# Altium footprint library Low frequency N32G452RX_20220819-V3.PcbLib: 34 footprints (part 1 of 3)
Each footprint in its own frame and in the unit in brackets; x right, y up, seen from the top. Pads: shape width x height; smd on the part's side, far side on the other; paste and mask are expansions set on the pad; w line width, h text height; cw(c..) or ccw(c..) is an arc to the next point about the centre after c.
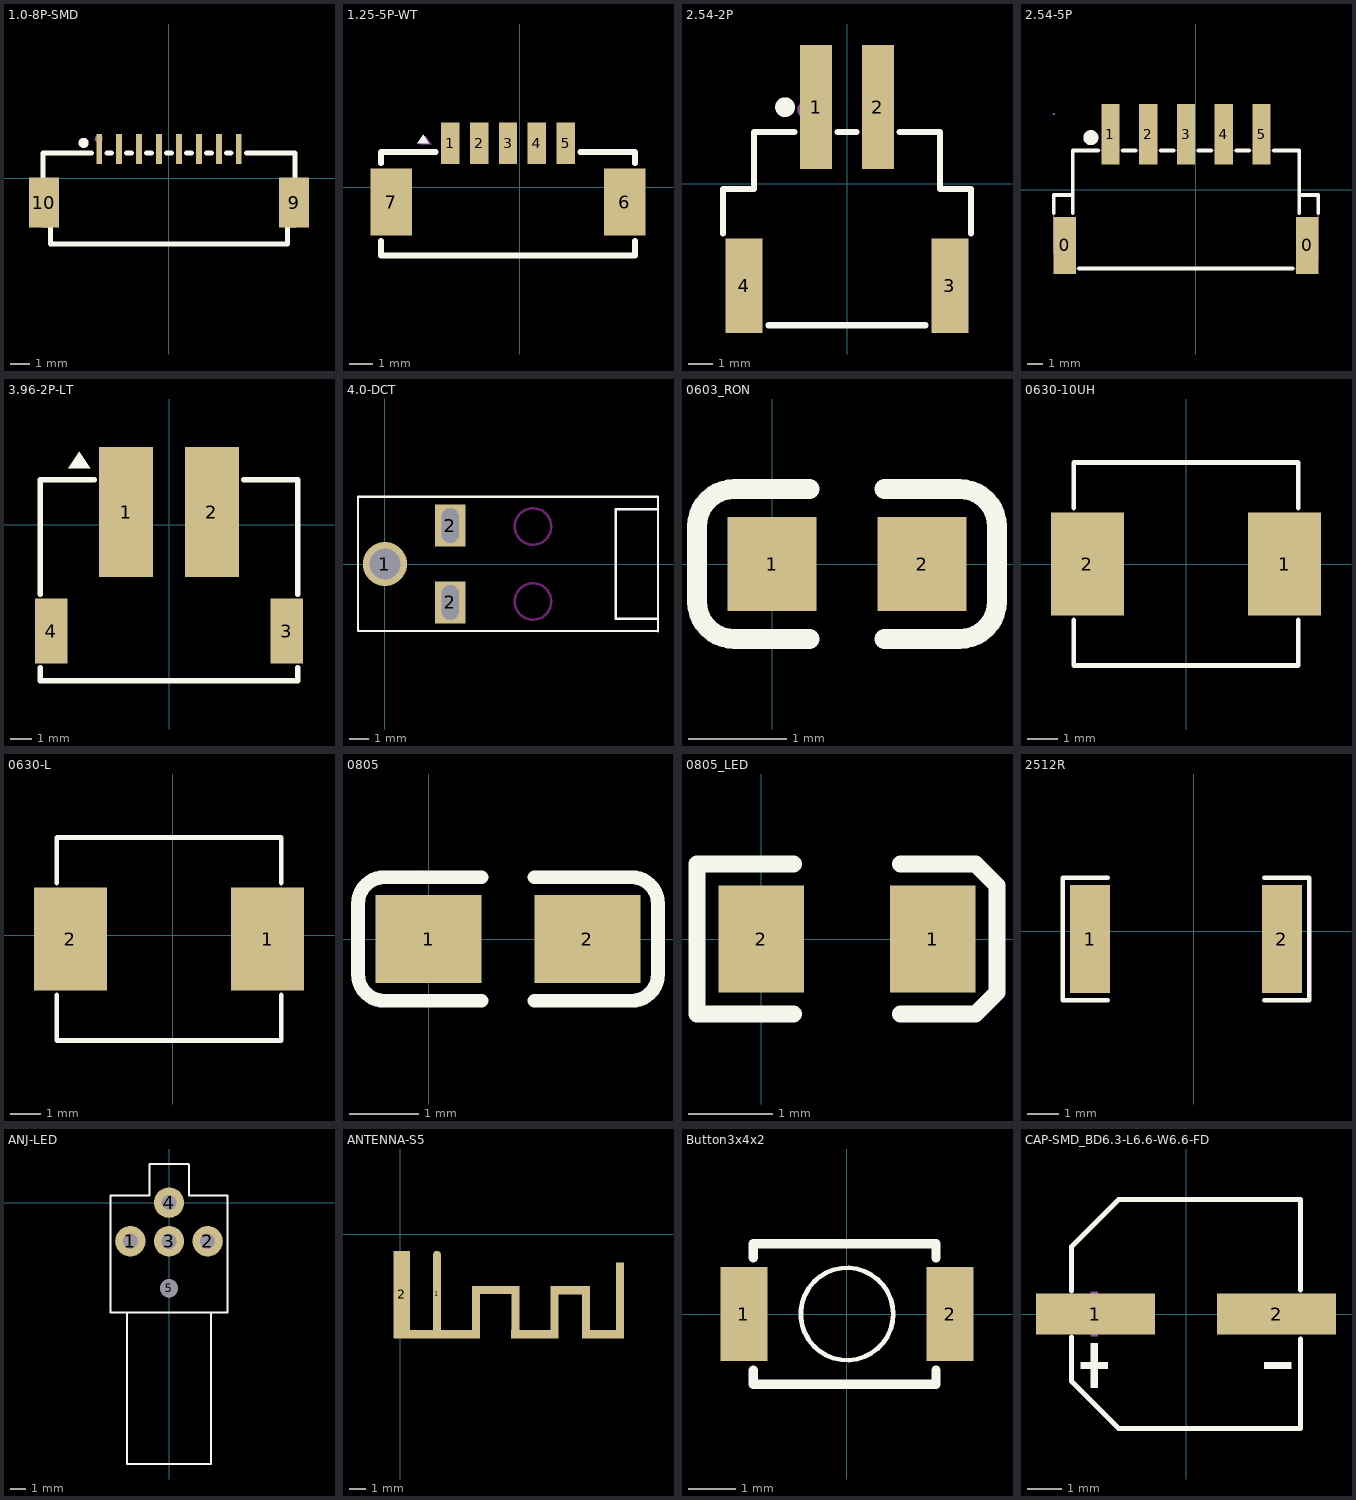
[diagram p0: the footprints below, top view; thin cyan lines are the x and y axes]

## 1.0-8P-SMD [mm]
height 1.75
pads (10):
  rect 0.3x1.5 smd: 1(-3.5,1.477) 2(-2.5,1.477) 3(-1.5,1.477) 4(-0.5,1.477) 5(0.5,1.477) 6(1.5,1.477) 7(2.5,1.477) 8(3.5,1.477)
  rect 1.5x2.5 smd: 9(6.276,-1.223) 10(-6.276,-1.223)
Top Overlay:
  circle w0.254: c-4.286,1.778 r0.127
  lines w0.254: -6.318,-2.354 -5.937,-2.354 -5.937,-3.302 5.937,-3.302 5.937,-2.354 6.318,-2.354 ; -6.318,-0.092 -6.318,1.27 -3.881,1.27 ; -3.119,1.27 -2.881,1.27 ; -2.119,1.27 -1.881,1.27 ; -1.119,1.27 -0.881,1.27 ; -0.119,1.27 0.119,1.27 ; 0.881,1.27 1.119,1.27 ; 1.881,1.27 2.119,1.27 ; 2.881,1.27 3.119,1.27 ; 6.318,1.27 6.318,-0.092 6.318,1.27 ; 6.318,1.27 3.881,1.27 6.318,1.27
Mechanical 15:
  circle w0.2: c-3.526,1.975 r0.1

## 1.25-5P-WT [mm]
pads (7):
  rect 0.8x1.8 smd: 1(-3.008,1.91) 2(-1.758,1.91) 3(-0.508,1.91) 4(0.742,1.91) 5(1.992,1.91)
  rect 1.8x2.9 smd: 6(4.542,-0.64) 7(-5.558,-0.64)
Top Overlay:
  region: -4.191,2.286 -4.445,1.905 -3.937,1.905
  lines w0.254: -6.008,-2.321 -6.008,-2.954 4.992,-2.954 4.992,-2.321 ; -6.008,1.041 -6.008,1.524 -3.639,1.524 ; 2.623,1.524 4.992,1.524 4.992,1.041
Mechanical 6:
  region: -4.086,2.241 -4.34,1.86 -3.832,1.86

## 2.54-2P [mm]
pads (4):
  rect 1.3x5 smd: 1(-1.25,3.092) 2(1.25,3.092)
  rect 1.5x3.8 smd: 3(4.15,-4.108) 4(-4.15,-4.108)
Top Overlay:
  circle w0.4: c-2.5,3.092 r0.2
  lines w0.254: -5,-2 -5,-0.208 -3.75,-0.208 -3.75,2.092 -2.131,2.092 ; -3.169,-5.708 3.169,-5.708 ; -0.369,2.092 0.369,2.092 ; 2.131,2.092 3.75,2.092 3.75,-0.208 5,-0.208 5,-2
Mechanical 6:
  circle w0.4: c-1.6,2.992 r0.2

## 2.54-5P [mm]
pads (7):
  rect 1.5x3.8 smd: 0(-8.665,-3.688) 0(7.395,-3.688)
  rect 1.2x4 smd: 1(-5.635,3.688) 2(-3.135,3.688) 3(-0.635,3.688) 4(1.865,3.688) 5(4.365,3.688)
Top Overlay:
  circle w0.5: c-6.935,3.45 r0.25
  lines w0.254: -9.385,-1.557 -9.385,-0.351 -8.136,-0.351 -8.136,2.588 -6.467,2.588 ; -8.135,-1.556 -8.135,-1 -8.135,-0.167 ; -7.735,-5.212 6.414,-5.212 ; -4.804,2.588 -3.966,2.588 ; -2.304,2.588 -1.466,2.588 ; 0.196,2.588 1.034,2.588 ; 2.696,2.588 3.534,2.588 ; 5.535,2.588 5.196,2.588 6.865,2.588 6.865,-0.35 ; 6.865,-1.556 6.865,-0.846 6.865,-0.35 ; 8.115,-1.556 8.115,-0.35 6.865,-0.35 ; -8.136,-0.166 -8.135,-0.167
Mechanical 6:
  circle w0.5: c-5.635,3.688 r0.25
Mechanical 15:
  region: -9.32,5.012 -9.339,5.058 -9.385,5.077 -9.431,5.058 -9.45,5.012 -9.431,4.967 -9.385,4.948 -9.339,4.967
  region: -8.535,-2.187 -8.135,-2.187 -8.135,-5.187 -8.535,-5.187
  region: 6.865,-2.187 7.265,-2.187 7.265,-5.187 6.865,-5.187
  region: -5.955,5.013 -5.315,5.013 -5.315,2.513 -5.955,2.513
  region: -3.455,5.013 -2.815,5.013 -2.815,2.513 -3.455,2.513
  region: -0.955,5.013 -0.315,5.013 -0.315,2.513 -0.955,2.513
  region: 1.545,5.013 2.185,5.013 2.185,2.513 1.545,2.513
  region: 4.045,5.013 4.685,5.013 4.685,2.513 4.045,2.513
  lines w0.051: -9.385,-4.187 -8.135,-4.187 -8.135,-5.187 6.865,-5.187 6.865,-4.487 8.115,-4.487 8.115,-0.35 6.865,-0.35 6.865,2.613 -8.135,2.613 -8.135,-0.35 -9.385,-0.35 -9.385,-4.187

## 3.96-2P-LT [mm]
pads (4):
  rect 2.5x6 smd: 1(-1.98,0.591) 2(1.98,0.591)
  rect 1.5x3 smd: 3(5.43,-4.909) 4(-5.43,-4.909)
Top Overlay:
  region: -4.145,3.385 -4.653,2.623 -3.637,2.623
  lines w0.254: -5.94,-6.609 -5.94,-7.209 5.94,-7.209 5.94,-6.609 ; -5.94,-3.209 -5.94,2.091 -3.46,2.091 ; 3.46,2.091 5.94,2.091 5.94,-3.209

## 4.0-DCT [mm]
pads (3):
  round 2.3 hole 1.6: 1(0,0)
  rect 1.6x2.2 hole 0.9 slot 1.8 at 90 deg: 2(3.4,-2) 2(3.4,2)
Top Overlay:
  lines w0.127: 14.2,-3.5 14.2,3.5 13.58,3.5 -1.12,3.5 -1.4,3.5 -1.4,-3.485 -1.12,-3.485 13.58,-3.485 14.2,-3.485 ; 14.2,-2.85 12,-2.85 12,2.85 14.2,2.85
Keep-Out Layer:
  circle w0.127: c7.7,-1.95 r0.95
  circle w0.127: c7.7,1.95 r0.95

## 0603_RON [mm]
height 1.75
pads (2):
  rect 0.9x0.95 smd: 1(0,0) 2(1.524,0)
Top Overlay:
  lines w0.2: 0.381,-0.762 -0.381,-0.762 cw(c-0.381,-0.381) -0.762,-0.381 -0.762,0.381 cw(c-0.381,0.381) -0.381,0.762 0.381,0.762 ; 1.143,-0.762 1.905,-0.762 ccw(c1.905,-0.381) 2.286,-0.381 2.286,0.381 ccw(c1.905,0.381) 1.905,0.762 1.143,0.762

## 0630-10UH [mm]
pads (2):
  rect 2.424x3.42 smd: 1(3.278,0) 2(-3.278,0)
Top Overlay:
  lines w0.152: -3.726,-1.862 -3.726,-3.376 3.726,-3.376 3.726,-1.862 ; -3.726,1.862 -3.726,3.376 3.726,3.376 3.726,1.862

## 0630-L [mm]
pads (2):
  rect 2.424x3.42 smd: 1(3.151,-0.127) 2(-3.405,-0.127)
Top Overlay:
  lines w0.152: -3.853,-1.989 -3.853,-3.503 3.599,-3.503 3.599,-1.989 ; -3.853,1.735 -3.853,3.249 3.599,3.249 3.599,1.735

## 0805 [mil]
height 68.9
pads (2):
  rect 60x50 smd: 1(0,0) 2(90,0)
Top Overlay:
  lines w7.87: 30,-35 -25,-35 cw(c-25,-20) -40,-20 -40,20 cw(c-25,20) -25,35 30,35 ; 60,-35 115,-35 ccw(c115,-20) 130,-20 130,20 ccw(c115,20) 115,35 60,35

## 0805_LED [mil]
pads (2):
  rect 40x50 smd: 1(80,0) 2(0,0)
Top Overlay:
  lines w8: 15,-35 -30,-35 -30,35 15,35 ; 65,-35 100,-35 110,-25 110,25 100,35 65,35

## 2512R [mil]
pads (2):
  rect 50.49x136.06 smd: 1(-130.72,-10) 2(110.72,-10)
Top Overlay:
  lines w6: -108.47,-87.03 -164.97,-87.03 -164.97,67.03 -108.47,67.03 ; 88.47,-87.03 144.97,-87.03 144.97,67.03 88.47,67.03
Top Paste:
  region: 85.47,-74.09 85.47,-37.07 89.41,-33.13 98.7,-33.13 102.64,-29.19 102.64,9.19 98.7,13.13 89.41,13.13 85.47,17.07 85.47,54.09 89.41,58.03 132.03,58.03 135.97,54.09 135.97,-74.09 132.03,-78.03 89.41,-78.03
  region: -105.47,-74.09 -105.47,-37.07 -109.41,-33.13 -118.7,-33.13 -122.64,-29.19 -122.64,9.19 -118.7,13.13 -109.41,13.13 -105.47,17.07 -105.47,54.09 -109.41,58.03 -152.03,58.03 -155.97,54.09 -155.97,-74.09 -152.03,-78.03 -109.41,-78.03

## ANJ-LED [mm]
height 1.75
pads (5):
  round 2 hole 1: 1(-2.54,-2.54) 2(2.54,-2.54) 3(0,-2.54) 4(0,0)
  oval 1x1.2 hole 1.2: 5(0,-5.64)
Top Overlay:
  lines w0.127: -2.75,-7.24 -2.75,-17.2 2.75,-17.2 2.75,-7.24 ; -3.85,-7.24 3.85,-7.24 3.85,0.46 1.318,0.46 1.318,2.492 1.27,2.54 -1.27,2.54 -1.27,0.46 -3.85,0.46 -3.85,-7.24

## ANTENNA-S5 [mil] "ANTENNA snake 5 section"
height 51.18
pads (12):
  oval 20x209.84 smd: 1(88,-145)
  rect 40x209.84 smd: 2(3,-145)
  rect 206.69x19.68 smd: ""(88,-240.5)
  rect 19.68x124.02 smd: ""(182,-187.5) ""(277,-187.5) ""(447,-187.5)
  rect 114.37x19.8 smd: ""(229.5,-134.5)
  rect 114.37x19.72 smd: ""(324,-240.5)
  rect 20.08x124.02 smd: ""(371,-187.5)
  rect 95.28x19.68 smd: ""(409,-135)
  rect 96.85x19.68 smd: ""(486,-240.5)
  rect 19.68x183.07 smd: ""(528.5,-159)

## Button3x4x2 [mm]
pads (2):
  rect 1x2 smd: 1(-2.2,0) 2(2.2,0)
Top Overlay:
  circle w0.1: c0,0 r0.985
  lines w0.2: -2,-1.2 -2,-1.5 1.9,-1.5 1.9,-1.2 ; -2,1.2 -2,1.5 1.6,1.5 1.9,1.5 1.9,1.2

## CAP-SMD_BD6.3-L6.6-W6.6-FD [mm]
pads (2):
  rect 3.5x1.2 smd: 1(-2.67,0) 2(2.67,0)
Top Overlay:
  region: -2.805,-0.858 -2.805,-2.178 -2.607,-2.178 -2.607,-0.858
  region: -3.102,-1.419 -3.102,-1.617 -2.31,-1.617 -2.31,-1.419
  region: 3.102,-1.419 3.102,-1.617 2.31,-1.617 2.31,-1.419
  lines w0.127: 3.356,-3.376 3.376,-3.376 ; 3.369,3.376 3.376,3.376 ; -3.376,-1.981 -3.376,-1.981 ; -3.376,-0.686 -3.376,-0.686
  lines w0.152: -3.376,-0.686 -3.376,-1.981 -1.981,-3.376 3.376,-3.376 3.376,-0.739 ; -3.376,0.686 -3.376,1.98 -1.98,3.376 3.376,3.376 ; 3.369,0.708 3.369,3.376
Mechanical 5:
  region: -3.6,0.325 -3.6,-0.325 -1,-0.325 -1,0.325
  region: 3.6,0.325 3.6,-0.325 1,-0.325 1,0.325
Mechanical 15:
  region: -2.805,0.66 -2.805,-0.66 -2.607,-0.66 -2.607,0.66
  region: -3.102,0.099 -3.102,-0.099 -2.31,-0.099 -2.31,0.099
  region: 3.102,0.099 3.102,-0.099 2.31,-0.099 2.31,0.099